# Altium schematic symbol library reference.SchLib: 2 symbols
Pins are listed as number, name and electrical type; pins without a type are passive.

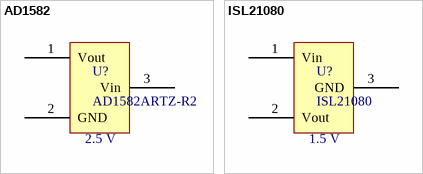
[diagram p0: symbols AD1582 to ISL21080]

## AD1582
designator U?, comment AD1582ARTZ-R2  Output Voltage: 2.5 V
2.5 V to 5.0 V Micropower, Precision  Series Mode Voltage References; Supplier 1: Digi-Key; Supplier Part Number 1: AD1582ARTZ-R2CT-ND
footprint SOT23-3 (SOT23, 3-Leads, Body 2.9x1.3mm, Pitch 0.95mm, Lead Span 2.3mm, IPC Medium Density)
pins: 1 Vout, 2 GND, 3 Vin

## ISL21080
designator U?  Output Voltage: 1.5 V
300nA NanoPower Voltage References; Supplier 1: Digi-Key; Supplier Part Number 1: ISL21080CIH315Z-T7ACT-ND
footprint SOT23-3 (SOT23, 3-Leads, Body 2.9x1.3mm, Pitch 0.95mm, Lead Span 2.3mm, IPC Medium Density)
pins: 1 Vin, 2 Vout, 3 GND